# EAGLE library part SI-50170-F (library SI-50170-F)
Conn Telephone/Telecom F 8 POS 2.54mm Solder RA Thru-Hole 12 Terminal 1 Port
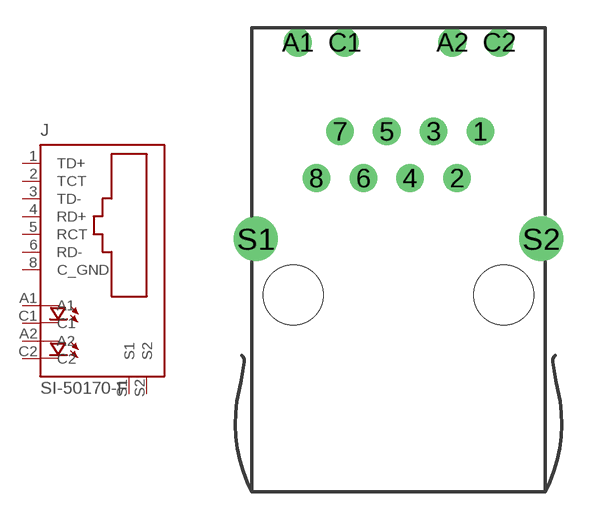
[diagram p0: symbol with the pads of STEWART_SI-50170-F; footprint STEWART_SI-50170-F]

Designator prefix J

## SI-50170-F (Availability: Unavailable; Description: 1 Port RJ45 Magjack Connector Through Hole 10/100 Base-T, AutoMDIX; MF: Stewart Connector; MP: SI-50170-F; Package: None; Price: None)  [STEWART_SI-50170-F]
1  TD+  pas
2  TCT  pas
3  TD-  pas
4  RD+  pas
5  RCT  pas
6  RD-  pas
8  C_GND  pas
A1  A1  pas
A2  A2  pas
C1  C1  pas
C2  C2  pas
S1  S1  pas
S2  S2  pas

## Footprint STEWART_SI-50170-F (pad centres in mm)
drill 0.9 pad 1.5: 1 4.445,6.858; 2 3.175,4.318; 3 1.905,6.858; 4 0.635,4.318; 5 -0.635,6.858; 6 -1.905,4.318; 7 -3.175,6.858; 8 -4.445,4.318
drill 1.016 pad 1.5: A1 -5.461,11.684; A2 2.921,11.684; C1 -2.921,11.684; C2 5.461,11.684
drill 1.6 pad 2.2: S1 -7.747,1.016; S2 7.747,1.016
hole 3.251 at -5.715,-2.032
hole 3.251 at 5.715,-2.032